# Altium footprint library PcbLib1.PcbLib: 218 footprints (part 8 of 14)
Each footprint in its own frame and in the unit in brackets; x right, y up, seen from the top. Pads: shape width x height; smd on the part's side, far side on the other; paste and mask are expansions set on the pad; w line width, h text height; cw(c..) or ccw(c..) is an arc to the next point about the centre after c.
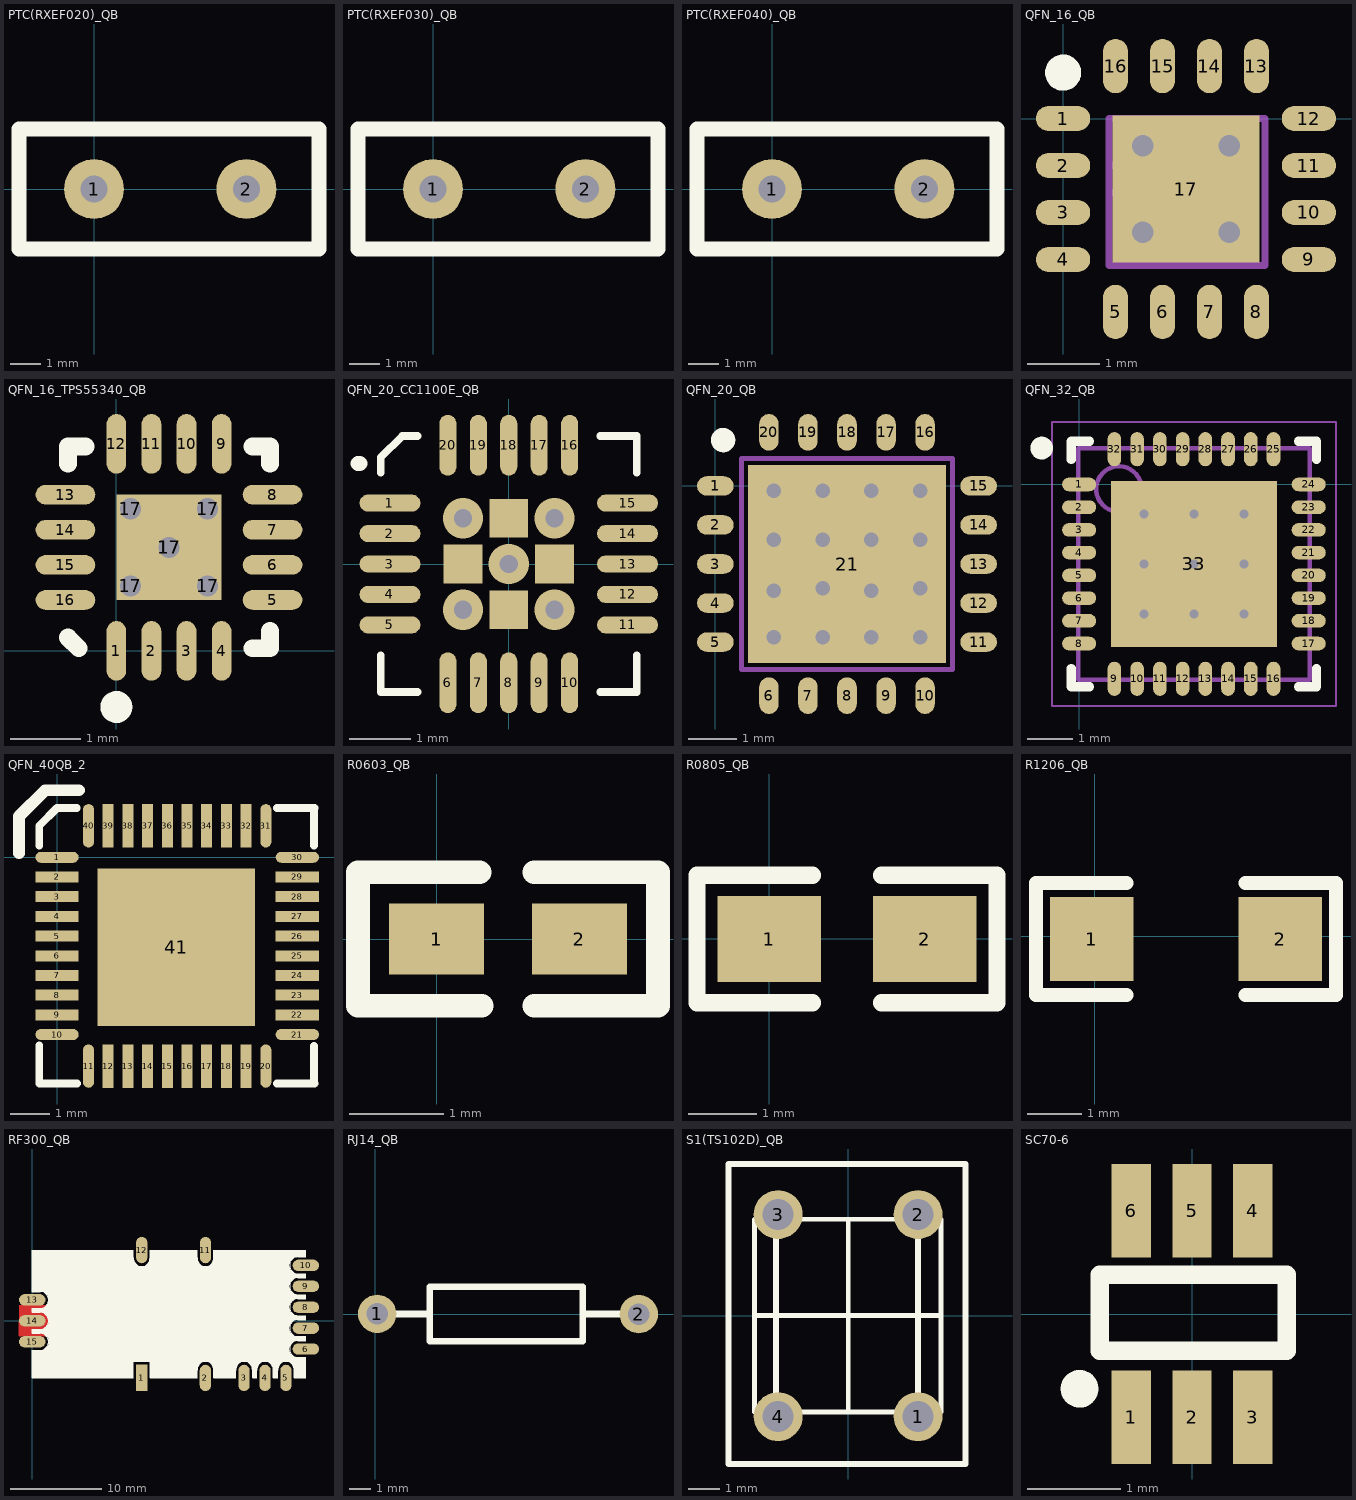
[diagram p7: the footprints below, top view; thin cyan lines are the x and y axes]

## PTC(RXEF020)_QB [mm]
height 0.5
pads (2):
  round 2 hole 0.9: 1(0,0) 2(5.08,0)
Top Overlay:
  lines w0.5: 7.5,-2 -2.5,-2 -2.5,2 7.5,2 7.5,-1.875
3D body: height 3, standoff -1, extent 4.936,-0.2 5.334,0.2
3D body: height 3, standoff -1, extent -0.271,-0.254 0.127,0.145
3D body: height 8.67, standoff 1.3, extent -1.153,-1.397 6.233,1.603

## PTC(RXEF030)_QB [mm]
height 0.5
pads (2):
  round 2 hole 0.9: 1(0,0) 2(5.08,0)
Top Overlay:
  lines w0.5: 7.5,-2 -2.5,-2 -2.5,2 7.5,2 7.5,-1.875
3D body: height 3, standoff -1, extent 4.936,-0.2 5.334,0.2
3D body: height 3, standoff -1, extent -0.271,-0.254 0.127,0.145
3D body: height 8.67, standoff 1.3, extent -1.153,-1.397 6.233,1.603

## PTC(RXEF040)_QB [mm]
height 0.5
pads (2):
  round 2 hole 0.9: 1(0,0) 2(5.08,0)
Top Overlay:
  lines w0.5: 7.5,-2 -2.5,-2 -2.5,2 7.5,2 7.5,-1.875
3D body: height 3, standoff -1, extent 4.936,-0.2 5.334,0.2
3D body: height 3, standoff -1, extent -0.271,-0.254 0.127,0.145
3D body: height 8.77, standoff 1.2, extent -1.153,-1.397 6.432,1.603

## QFN_16_QB [mm]
height 0.88
pads (17):
  oval 0.75x0.35 smd: 1(0,0) 2(0,-0.65) 3(0,-1.3) 4(0,-1.95) 9(3.4,-1.95) 10(3.4,-1.3) 11(3.4,-0.65) 12(3.4,0)
  oval 0.35x0.75 smd: 5(0.725,-2.675) 6(1.375,-2.675) 7(2.025,-2.675) 8(2.675,-2.675) 13(2.675,0.725) 14(2.025,0.725) 15(1.375,0.725) 16(0.725,0.725)
  rect 2.03x2.03 smd: 17(1.7,-0.975)
via 2.3,-1.575 diameter 0.5 hole 0.3
via 2.3,-0.375 diameter 0.5 hole 0.3
via 1.1,-0.375 diameter 0.5 hole 0.3
via 1.1,-1.575 diameter 0.5 hole 0.3
Top Overlay:
  circle w0.25: c0,0.635 r0.125
Mechanical 13:
  lines w0.1: 0.635,-1.035 ccw(c0.635,-0.835) 0.635,-0.635 ; 0.635,-2.032 0.635,0 2.794,0 2.794,-2.032 0.635,-2.032
3D body: height 0.88, standoff 0.03, extent -0.508,-3.175 3.937,1.27

## QFN_16_TPS55340_QB [mm]
pads (22):
  oval 0.28x0.85 smd: 1(0,0) 2(0.5,0) 3(1,0) 4(1.5,0) 9(1.5,2.95) 10(1,2.95) 11(0.5,2.95) 12(0,2.95)
  oval 0.85x0.28 smd: 5(2.225,0.725) 6(2.225,1.225) 7(2.225,1.725) 8(2.225,2.225) 13(-0.725,2.225) 14(-0.725,1.725) 15(-0.725,1.225) 16(-0.725,0.725)
  rect 0.4x0.4 hole 0.3: 17(0.2,0.925) 17(0.2,2.025) 17(0.75,1.475) 17(1.3,0.925) 17(1.3,2.025)
  rect 1.5x1.5 smd: 17(0.75,1.475)
Top Overlay:
  circle w0.254: c0,-0.8 r0.1
  lines w0.254: -0.688,0.188 -0.537,0.037 ; 1.942,0.037 2.188,0.037 2.188,0.283 ; 1.942,2.913 2.188,2.913 2.188,2.667 ; -0.688,2.913 -0.442,2.913 -0.688,2.913 ; -0.688,2.913 -0.688,2.667 -0.688,2.913
3D body: height 1, standoff 0, extent -0.688,0.037 2.188,2.913

## QFN_20_CC1100E_QB [mm]
height 1
pads (24):
  oval 1x0.28 smd: 1(-1.95,1) 2(-1.95,0.5) 3(-1.95,0) 4(-1.95,-0.5) 5(-1.95,-1) 11(1.95,-1) 12(1.95,-0.5) 13(1.95,0) 14(1.95,0.5) 15(1.95,1)
  oval 0.28x1 smd: 6(-1,-1.95) 7(-0.5,-1.95) 8(0,-1.95) 9(0.5,-1.95) 10(1,-1.95) 16(1,1.95) 17(0.5,1.95) 18(0,1.95) 19(-0.5,1.95) 20(-1,1.95)
  rect 0.635x0.635 smd: ""(-0.75,0) ""(0,-0.75) ""(0,0.75) ""(0.75,0)
via 0,0 diameter 0.66 hole 0.3
via -0.75,0.75 diameter 0.66 hole 0.3
via 0.75,-0.75 diameter 0.66 hole 0.3
via 0.75,0.75 diameter 0.66 hole 0.3
via -0.75,-0.75 diameter 0.66 hole 0.3
Top Layer:
  lines w0.254: -0.1,0.85 0,0.75
Top Overlay:
  lines w0.127: -2.1,-1.5 -2.1,-2.1 -1.5,-2.1 ; -2.1,1.5 -2.1,1.75 -1.75,2.1 -1.5,2.1 ; 1.5,-2.1 2.1,-2.1 2.1,-1.5 ; 1.5,2.1 2.1,2.1 2.1,1.5
  lines w0.254: -2.475,1.65 -2.45,1.65
3D body: height 0.2, standoff 0, extent 1.6,0.9 2.1,1.1
3D body: height 0.2, standoff 0, extent 1.6,0.4 2.1,0.6
3D body: height 0.2, standoff 0, extent 1.6,-0.1 2.1,0.1
3D body: height 0.2, standoff 0, extent 1.6,-0.6 2.1,-0.4
3D body: height 0.2, standoff 0, extent 1.6,-1.1 2.1,-0.9
3D body: height 0.2, standoff 0, extent 0.9,1.6 1.1,2.1
3D body: height 0.2, standoff 0, extent 0.4,1.6 0.6,2.1
3D body: height 0.2, standoff 0, extent -0.1,1.6 0.1,2.1
3D body: height 0.2, standoff 0, extent -0.6,1.6 -0.4,2.1
3D body: height 0.2, standoff 0, extent -1.1,1.6 -0.9,2.1
3D body: height 0.2, standoff 0, extent -2.1,0.9 -1.6,1.1
3D body: height 0.2, standoff 0, extent -2.1,0.4 -1.6,0.6
3D body: height 0.2, standoff 0, extent -2.1,-0.1 -1.6,0.1
3D body: height 0.2, standoff 0, extent -2.1,-0.6 -1.6,-0.4
3D body: height 0.2, standoff 0, extent -2.1,-1.1 -1.6,-0.9
3D body: height 0.2, standoff 0, extent -1.1,-2.1 -0.9,-1.6
3D body: height 0.2, standoff 0, extent -0.6,-2.1 -0.4,-1.6
3D body: height 0.2, standoff 0, extent -0.1,-2.1 0.1,-1.6
3D body: height 0.2, standoff 0, extent 0.4,-2.1 0.6,-1.6
3D body: height 0.2, standoff 0, extent 0.9,-2.1 1.1,-1.6
3D body: height 1, standoff 0.01, extent -2,-2 2,2

## QFN_20_QB [mm] "QFN, 20-Leads, Body 6.00x6.00mm, Pitch 0.80mm, Thermal Pad 4.90x4.90mm, IPC Medium Density"
height 0.88
pads (21):
  oval 0.75x0.4 smd: 1(0,0) 2(0,-0.8) 3(0,-1.6) 4(0,-2.4) 11(5.4,-3.2) 12(5.4,-2.4) 13(5.4,-1.6) 14(5.4,-0.8) 15(5.4,0)
  oval 0.75x0.4 smd paste+0: 5(0,-3.2)
  oval 0.4x0.75 smd: 6(1.1,-4.3) 7(1.9,-4.3) 8(2.7,-4.3) 9(3.5,-4.3) 10(4.3,-4.3) 16(4.3,1.1) 17(3.5,1.1) 18(2.7,1.1) 19(1.9,1.1) 20(1.1,1.1)
  rect 4.06x4.06 smd: 21(2.7,-1.6)
via 1.2,-0.1 diameter 0.5 hole 0.3
via 2.2,-0.1 diameter 0.5 hole 0.3
via 3.2,-0.1 diameter 0.5 hole 0.3
via 4.2,-0.1 diameter 0.5 hole 0.3
via 1.2,-1.1 diameter 0.5 hole 0.3
via 2.2,-1.1 diameter 0.5 hole 0.3
via 3.2,-1.1 diameter 0.5 hole 0.3
via 4.2,-1.1 diameter 0.5 hole 0.3
via 1.2,-2.15 diameter 0.5 hole 0.3
via 2.2,-2.1 diameter 0.5 hole 0.3
via 3.2,-2.15 diameter 0.5 hole 0.3
via 4.2,-2.1 diameter 0.5 hole 0.3
via 1.2,-3.1 diameter 0.5 hole 0.3
via 2.2,-3.1 diameter 0.5 hole 0.3
via 3.2,-3.1 diameter 0.5 hole 0.3
via 4.2,-3.1 diameter 0.5 hole 0.3
Top Overlay:
  circle w0.25: c0.16,0.94 r0.125
Mechanical 13:
  lines w0.1: 0.541,-3.759 0.541,0.559 4.859,0.559 4.859,-3.759 0.541,-3.759
3D body: height 0.88, standoff 0.03, extent -0.475,-4.775 5.875,1.575

## QFN_32_QB [mm] "QFN, 32-Leads, Body 5.00x5.00mm, Pitch 0.50mm, Thermal Pad 3.65x3.65mm, IPC Medium Density"
height 0.9
pads (33):
  oval 0.75x0.3 smd: 1(0,0) 2(0,-0.5) 3(0,-1) 4(0,-1.5) 5(0,-2) 6(0,-2.5) 7(0,-3) 8(0,-3.5) 17(5.05,-3.5) 18(5.05,-3) 19(5.05,-2.5) 20(5.05,-2) 21(5.05,-1.5) 22(5.05,-1) 23(5.05,-0.5) 24(5.05,0)
  oval 0.3x0.75 smd: 9(0.775,-4.275) 10(1.275,-4.275) 11(1.775,-4.275) 12(2.275,-4.275) 13(2.775,-4.275) 14(3.275,-4.275) 15(3.775,-4.275) 16(4.275,-4.275) 25(4.275,0.775) 26(3.775,0.775) 27(3.275,0.775) 28(2.775,0.775) 29(2.275,0.775) 30(1.775,0.775) 31(1.275,0.775) 32(0.775,0.775)
  rect 3.65x3.65 smd: 33(2.525,-1.75)
via 3.625,-2.85 diameter 0.5 hole 0.2
via 2.525,-2.85 diameter 0.5 hole 0.2
via 1.425,-2.85 diameter 0.5 hole 0.2
via 3.625,-1.75 diameter 0.5 hole 0.2
via 2.525,-1.75 diameter 0.5 hole 0.2
via 1.425,-1.75 diameter 0.5 hole 0.2
via 3.625,-0.65 diameter 0.5 hole 0.2
via 2.525,-0.65 diameter 0.5 hole 0.2
via 1.425,-0.65 diameter 0.5 hole 0.2
Top Overlay:
  circle w0.25: c-0.825,0.8 r0.125
  lines w0.2: -0.175,-4.05 -0.175,-4.45 0.225,-4.45 ; -0.175,0.55 -0.175,0.95 0.225,0.95 ; 4.825,-4.45 5.225,-4.45 5.225,-4.05 ; 4.825,0.95 5.225,0.95 5.225,0.55
Mechanical 13:
  circle w0.1: c0.875,-0.1 r0.5
  lines w0.1: -0.025,-4.3 5.075,-4.3 5.075,0.8 -0.025,0.8 -0.025,-4.3
Mechanical 15:
  lines w0.05: -0.6,-4.875 5.65,-4.875 5.65,1.375 -0.6,1.375 -0.6,-4.875
  lines w0.1: 2.025,-1.75 3.025,-1.75 ; 2.525,-2.25 2.525,-1.25
3D body: height 0.9, standoff 0.02, extent -0.025,-4.3 5.075,0.8

## QFN_40QB_2 [mm]
pads (41):
  oval 1.1x0.279 smd: 1(0,0) 10(0,-4.5) 21(6.1,-4.5) 30(6.1,0)
  rect 1.1x0.279 smd: 2(0,-0.5) 3(0,-1) 4(0,-1.5) 5(0,-2) 6(0,-2.5) 7(0,-3) 8(0,-3.5) 9(0,-4) 22(6.1,-4) 23(6.1,-3.5) 24(6.1,-3) 25(6.1,-2.5) 26(6.1,-2) 27(6.1,-1.5) 28(6.1,-1) 29(6.1,-0.5)
  oval 0.279x1.1 smd: 11(0.8,-5.3) 20(5.3,-5.3) 31(5.3,0.8) 40(0.8,0.8)
  rect 0.279x1.1 smd: 12(1.3,-5.3) 13(1.8,-5.3) 14(2.3,-5.3) 15(2.8,-5.3) 16(3.3,-5.3) 17(3.8,-5.3) 18(4.3,-5.3) 19(4.8,-5.3) 32(4.8,0.8) 33(4.3,0.8) 34(3.8,0.8) 35(3.3,0.8) 36(2.8,0.8) 37(2.3,0.8) 38(1.8,0.8) 39(1.3,0.8)
  rect 4x4 smd paste+0: 41(3.023,-2.286)
Top Overlay:
  lines w0.2: -0.45,-5.725 -0.45,-4.775 ; -0.45,0.3 -0.45,0.8 0,1.25 0.5,1.25 ; -0.442,-5.74 0.508,-5.74 ; 5.588,-5.74 6.538,-5.74 ; 5.588,1.25 6.538,1.25 ; 6.528,-5.74 6.528,-4.79 ; 6.528,0.3 6.528,1.25
  lines w0.3: -0.965,0.102 -0.965,0.864 -0.965,1.041 -0.305,1.702 0.559,1.702
3D body: height 0.9, standoff 0, extent 0.127,-5.207 6.071,0.762

## R0603_QB [mil]
pads (2):
  rect 40x30 smd: 1(0,0) 2(60,0)
Top Overlay:
  lines w10: 18,28 -33,28 -33,-28 19,-28 ; 41,-28 93,-28 93,28 41,28
3D body: height 35.04, standoff 0, extent -0.4,-16.7 63.4,16.7

## R0805_QB [mil]
height 27.56
pads (2):
  rect 60x50 smd: 1(0,0) 2(90,0)
Top Overlay:
  lines w10: 25,-37 -42,-37 -42,37 25,37 ; 65,-37 132,-37 132,37 65,37
3D body: height 19.68, standoff 0, extent 73.7,-24.61 85.75,24.61
3D body: height 19.68, standoff 0, extent 14.76,-24.61 73.82,24.61
3D body: height 19.68, standoff 0, extent 2.95,-24.61 15,24.61

## R1206_QB [mil]
pads (2):
  rect 60x60 smd: 1(-2,-2) 2(133,-2)
Top Overlay:
  lines w10: 23,-42 -42,-42 -42,38 23,38 ; 108,-42 173,-42 173,38 108,38
3D body: height 49.41, standoff 0, extent 116,-35.75 137,31.75
3D body: height 49.41, standoff 0, extent -6.5,-35.62 14.5,31.62
3D body: height 49.21, standoff 0, extent -1,-36 135,30

## RF300_QB [mm]
height 1.8
pads (15):
  rect 1.24x2.9 smd: 1(11.995,-6.273)
  oval 1.24x2.9 smd: 2(18.995,-6.273) 3(23.245,-6.273) 4(25.545,-6.273) 5(27.845,-6.273) 11(19.005,7.773) 12(12.005,7.773)
  oval 2.9x1.24 smd: 6(30.023,-3.105) 7(30.023,-0.805) 8(30.023,1.495) 9(30.023,3.795) 10(30.023,6.095) 13(-0.023,2.305) 14(-0.023,0.005) 15(-0.023,-2.295)
Top Layer:
  pour cut-out: -1.47,1.685 2.551,1.685 2.551,-1.67 -1.478,-1.67
Top Overlay:
  drawing of 78 lines, arcs and shapes, not listed
3D body: height 0.8, standoff 0.01, extent 0,-6.25 30,7.75
3D body: height 1.8, standoff 0.8, extent 14.099,-1.05 15.099,1.05
3D body: height 1.1, standoff 0.8, extent 13.599,-0.15 14.229,0.15
3D body: height 1.1, standoff 0.8, extent 13.599,-0.9 14.229,-0.6
3D body: height 1.1, standoff 0.8, extent 13.599,0.6 14.229,0.9
3D body: height 1.1, standoff 0.8, extent 14.969,0.6 15.599,0.9
3D body: height 1.1, standoff 0.8, extent 14.969,-0.15 15.599,0.15
3D body: height 1.1, standoff 0.8, extent 14.969,-0.9 15.599,-0.6
3D body: height 1.3, standoff 0.8, extent 19.95,-2.412 20.451,-1.862
3D body: height 1.3, standoff 0.8, extent 19.951,-2.637 20.451,-2.412
3D body: height 1.3, standoff 0.8, extent 19.951,-1.862 20.451,-1.637
3D body: height 1.3, standoff 0.8, extent 20.001,-0.734 20.225,-0.234
3D body: height 1.3, standoff 0.8, extent 19.226,-0.734 19.451,-0.234
3D body: height 1.3, standoff 0.8, extent 19.451,-0.734 20.001,-0.234
3D body: height 1.3, standoff 0.8, extent 10.637,-0.25 10.861,0.25
3D body: height 1.3, standoff 0.8, extent 9.862,-0.25 10.087,0.25
3D body: height 1.3, standoff 0.8, extent 10.087,-0.25 10.637,0.25
3D body: height 1.3, standoff 0.8, extent 7.714,-0.25 7.939,0.25
3D body: height 1.3, standoff 0.8, extent 6.939,-0.25 7.164,0.25
3D body: height 1.3, standoff 0.8, extent 7.164,-0.25 7.714,0.25
3D body: height 1.3, standoff 0.8, extent 4.79,-0.25 5.015,0.25
3D body: height 1.3, standoff 0.8, extent 4.015,-0.25 4.24,0.25
3D body: height 1.3, standoff 0.8, extent 4.24,-0.25 4.79,0.25
3D body: height 1.3, standoff 0.8, extent 19.176,1.544 19.676,1.769
3D body: height 1.3, standoff 0.8, extent 19.176,0.769 19.676,0.994
3D body: height 1.3, standoff 0.8, extent 19.176,0.994 19.676,1.544
3D body: height 1.3, standoff 0.8, extent 18.114,1.569 18.339,2.069
3D body: height 1.3, standoff 0.8, extent 17.339,1.569 17.564,2.069
3D body: height 1.3, standoff 0.8, extent 17.564,1.569 18.114,2.069
3D body: height 1.3, standoff 0.8, extent 23.372,-3.151 23.872,-2.926
3D body: height 1.3, standoff 0.8, extent 23.372,-3.926 23.872,-3.701
3D body: height 1.3, standoff 0.8, extent 23.372,-3.701 23.872,-3.151
3D body: height 1.3, standoff 0.8, extent 22.309,-3.926 22.809,-3.701
3D body: height 1.3, standoff 0.8, extent 22.309,-3.151 22.809,-2.926
3D body: height 1.3, standoff 0.8, extent 22.309,-3.701 22.809,-3.151
3D body: height 1.3, standoff 0.8, extent 24.43,-3.15 24.93,-2.925
3D body: height 1.3, standoff 0.8, extent 24.43,-3.925 24.93,-3.7
3D body: height 1.3, standoff 0.8, extent 24.43,-3.7 24.93,-3.15
3D body: height 1.6, standoff 0.8, extent 20.978,-4.626 21.778,-4.251
3D body: height 1.6, standoff 0.8, extent 20.978,-4.251 21.778,-3.401
3D body: height 1.6, standoff 0.8, extent 20.978,-3.401 21.778,-3.026
3D body: height 1.3, standoff 0.8, extent 19.994,-3.903 20.219,-3.403
3D body: height 1.3, standoff 0.8, extent 19.219,-3.903 19.444,-3.403
3D body: height 1.3, standoff 0.8, extent 19.444,-3.903 19.994,-3.403
3D body: height 1.3, standoff 0.8, extent 16.282,-3.795 16.782,-3.57
3D body: height 1.3, standoff 0.8, extent 16.282,-3.02 16.782,-2.795
3D body: height 1.3, standoff 0.8, extent 16.282,-3.57 16.782,-3.02
3D body: height 1.3, standoff 0.8, extent 13.449,-1.952 13.949,-1.728
3D body: height 1.3, standoff 0.8, extent 13.449,-2.727 13.949,-2.502
3D body: height 1.3, standoff 0.8, extent 13.449,-2.502 13.949,-1.952
3D body: height 1.3, standoff 0.8, extent 17.344,-1.669 17.856,-1.156
3D body: height 1.3, standoff 0.8, extent 17.892,-1.121 18.404,-0.608
3D body: height 1.3, standoff 0.8, extent 17.503,-1.51 18.245,-0.767
3D body: height 1.3, standoff 0.8, extent 16.252,-2.068 16.477,-1.568
3D body: height 1.3, standoff 0.8, extent 15.477,-2.068 15.702,-1.568
3D body: height 1.3, standoff 0.8, extent 15.702,-2.068 16.252,-1.568
3D body: height 1.3, standoff 0.8, extent 8.651,-1.086 9.151,-0.861
3D body: height 1.3, standoff 0.8, extent 8.651,-0.311 9.151,-0.086
3D body: height 1.3, standoff 0.8, extent 8.651,-0.861 9.151,-0.311
3D body: height 1.3, standoff 0.8, extent 5.729,-1.086 6.229,-0.861
3D body: height 1.3, standoff 0.8, extent 5.729,-0.311 6.229,-0.086
3D body: height 1.3, standoff 0.8, extent 5.729,-0.861 6.229,-0.311
3D body: height 1.3, standoff 0.8, extent 12.501,-0.25 12.726,0.25
3D body: height 1.3, standoff 0.8, extent 11.726,-0.25 11.951,0.25
3D body: height 1.3, standoff 0.8, extent 11.951,-0.25 12.501,0.25
3D body: height 1.3, standoff 0.8, extent 2.928,-0.25 3.153,0.25
3D body: height 1.3, standoff 0.8, extent 2.153,-0.25 2.378,0.25
3D body: height 1.3, standoff 0.8, extent 2.378,-0.25 2.928,0.25
3D body: height 1.3, standoff 0.8, extent 17.339,0.469 17.564,0.969
3D body: height 1.3, standoff 0.8, extent 18.114,0.469 18.339,0.969
3D body: height 1.3, standoff 0.8, extent 17.564,0.469 18.114,0.969
3D body: height 1.3, standoff 0.8, extent 16.252,1.568 16.477,2.068
3D body: height 1.3, standoff 0.8, extent 15.477,1.568 15.702,2.068
3D body: height 1.3, standoff 0.8, extent 15.702,1.568 16.252,2.068
3D body: height 1.3, standoff 0.8, extent 13.449,1.73 13.949,1.955
3D body: height 1.3, standoff 0.8, extent 13.449,2.505 13.949,2.73
3D body: height 1.3, standoff 0.8, extent 13.449,1.955 13.949,2.505
3D body: height 1.3, standoff 0.8, extent 18.065,3.566 18.565,3.791
3D body: height 1.3, standoff 0.8, extent 18.065,2.791 18.565,3.016
3D body: height 1.3, standoff 0.8, extent 18.065,3.016 18.565,3.566
3D body: height 1.3, standoff 0.8, extent 21.599,4.728 22.099,4.953
3D body: height 1.3, standoff 0.8, extent 21.599,3.953 22.099,4.178
3D body: height 1.3, standoff 0.8, extent 21.599,4.178 22.099,4.728
3D body: height 1.3, standoff 0.8, extent 27.142,6.688 27.642,6.913
3D body: height 1.3, standoff 0.8, extent 27.142,5.913 27.642,6.138
3D body: height 1.3, standoff 0.8, extent 27.142,6.138 27.642,6.688
3D body: height 1.7, standoff 0.8, extent 21.506,-1.513 25.606,2.587
3D body: height 1, standoff 0.8, extent 25.156,1.437 25.656,1.637
3D body: height 1, standoff 0.8, extent 25.156,0.937 25.656,1.137
3D body: height 1, standoff 0.8, extent 25.156,0.437 25.656,0.637
3D body: height 1, standoff 0.8, extent 25.156,-0.063 25.656,0.137
3D body: height 1, standoff 0.8, extent 25.156,-0.563 25.656,-0.363
3D body: height 1, standoff 0.8, extent 24.456,2.137 24.656,2.637
3D body: height 1, standoff 0.8, extent 23.956,2.137 24.156,2.637
3D body: height 1, standoff 0.8, extent 23.456,2.137 23.656,2.637
3D body: height 1, standoff 0.8, extent 22.956,2.137 23.156,2.637
3D body: height 1, standoff 0.8, extent 22.456,2.137 22.656,2.637
3D body: height 1, standoff 0.8, extent 21.456,1.437 21.956,1.637
3D body: height 1, standoff 0.8, extent 21.456,0.937 21.956,1.137
3D body: height 1, standoff 0.8, extent 21.456,0.437 21.956,0.637
3D body: height 1, standoff 0.8, extent 21.456,-0.063 21.956,0.137
3D body: height 1, standoff 0.8, extent 21.456,-0.563 21.956,-0.363
3D body: height 1, standoff 0.8, extent 22.456,-1.563 22.656,-1.063
3D body: height 1, standoff 0.8, extent 22.956,-1.563 23.156,-1.063
3D body: height 1, standoff 0.8, extent 23.456,-1.563 23.656,-1.063
3D body: height 1, standoff 0.8, extent 23.956,-1.563 24.156,-1.063
3D body: height 1, standoff 0.8, extent 24.456,-1.563 24.656,-1.063
3D body: height 1.6, standoff 0.8, extent 22.877,3.426 26.277,6.125
3D body: height 0.8, standoff 0, extent 11.385,6.321 12.625,7.75
3D body: height 0.8, standoff 0, extent 18.385,6.321 19.625,7.75
3D body: height 0.8, standoff 0, extent 28.571,5.475 30,6.715
3D body: height 0.8, standoff 0, extent 28.571,3.175 30,4.415
3D body: height 0.8, standoff 0, extent 28.571,0.875 30,2.115
3D body: height 0.8, standoff 0, extent 28.571,-1.425 30,-0.185
3D body: height 0.8, standoff 0, extent 28.571,-3.725 30,-2.485
3D body: height 0.8, standoff 0, extent 27.225,-6.25 28.465,-4.821
3D body: height 0.8, standoff 0, extent 24.925,-6.25 26.165,-4.821
3D body: height 0.8, standoff 0, extent 22.625,-6.25 23.865,-4.821
3D body: height 0.8, standoff 0, extent 18.375,-6.25 19.615,-4.821
3D body: height 0.8, standoff 0, extent 11.375,-6.25 12.615,-4.821
3D body: height 0.8, standoff 0, extent 0,-2.915 1.429,-1.675
3D body: height 0.8, standoff 0, extent 0,-0.615 1.429,0.625
3D body: height 0.8, standoff 0, extent 0,1.685 1.429,2.925

## RJ14_QB [mil]
pads (2):
  round 70 hole 39.37: 1(3.82,0.21) 2(482.18,-0.21)
Top Overlay:
  lines w12: 20,0 100,0 ; 385,0 465,0 ; 100,-50 100,50 380,50 380,-50 100,-50
3D body: height 101.93, standoff -7.87, extent 103,-57.01 378.59,53.01
3D body: height 53.15, standoff -102.36, extent -10.02,-11.81 13.51,11.76
3D body: height 66.84, standoff 43.31, extent 3.82,-11.58 106.18,12
3D body: height 66.93, standoff 43.31, extent -10,-11.76 13.5,11.76
3D body: height 66.93, standoff 43.31, extent 472.5,-11.76 496,11.76
3D body: height 66.84, standoff 43.31, extent 379.82,-12 482.18,11.58
3D body: height 53.15, standoff -102.36, extent 472.49,-11.76 496.01,11.81

## S1(TS102D)_QB [mm]
pads (4):
  round 1.575 hole 1: 1(2.25,-3.25) 2(2.25,3.25) 3(-2.25,3.25) 4(-2.25,-3.25)
Top Overlay:
  lines w0.152: -3.011,-3.1 2.989,-3.1 2.989,3.1 -3.011,3.1 ; -3.011,-3.098 -3.011,3.102 ; -3.011,0 2.989,0 ; 0,-3.1 0,3.1
  lines w0.2: -2.322,-3.25 -2.322,3.25 ; 2.25,-3.25 2.25,3.25 ; -3.846,-4.774 3.774,-4.774 3.774,4.878 -3.846,4.878 -3.846,-4.774
3D body: height 3, standoff 0, extent -2.9,-2.8 3.1,3.2
3D body: height 8, standoff 3, extent -1.394,-1.394 1.594,1.6

## SC70-6 [mm]
pads (6):
  rect 0.42x1 smd: 1(-0.65,-1.105) 2(0,-1.105) 3(0.65,-1.105) 4(0.65,1.105) 5(0,1.105) 6(-0.65,1.105)
Top Overlay:
  lines w0.2: -0.987,-0.393 1.013,-0.393 1.013,0.419 -0.987,0.419 -0.987,0.213 -0.987,-0.393
  lines w0.25: -1.128,-0.802 cw(c-1.204,-0.801) -1.128,-0.8